# Altium integrated library R1-8V.IntLib: 9 symbols
Pins are listed as number, name and electrical type; pins without a type are passive.

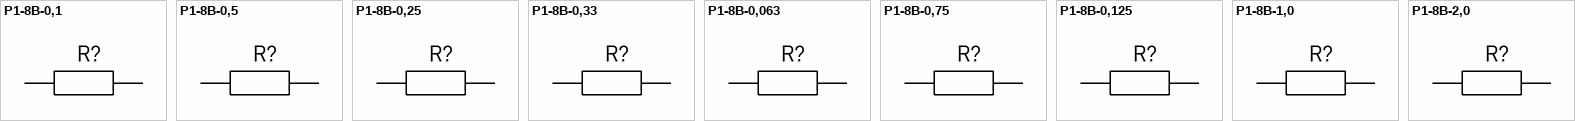
[diagram p0: symbols Р1-8В-0,1 to Р1-8В-2,0]

## Р1-8В-0,1
designator R?  (value not drawn)
Чип-резисторы постоянные непроволочные высокочастотные Р1-8В "АО"НПО"ЭРКОН"; Номинальная мощность рассеяния: 0,1 Вт; Типоразмер: 0603; Предельное рабочее напряжение: 50 В; Диапазон значений номинальных сопротивлений: от 0,15 Ом до 10 МОм; Ряд сопротивлений: Е24, Е48, Е96; КСВН: 1,2; Частота (КСВН): 2 ГГц; Категории качества: ВП; ТУ: ОЖО.467.164 ТУ
footprint Р1-8В-0603 (Chip Resistor, 2-Leads, Body 1,60x0,80mm, IPC Medium Density)
pins: 1, 2

## Р1-8В-0,5
designator R?  (value not drawn)
Чип-резисторы постоянные непроволочные высокочастотные Р1-8В "АО"НПО"ЭРКОН"; Номинальная мощность рассеяния: 0,5 Вт; Типоразмер: 2010; Предельное рабочее напряжение: 200 В; Диапазон значений номинальных сопротивлений: от 0,15 Ом до 10 МОм; Ряд сопротивлений: Е24, Е48, Е96; КСВН: 1,25; Частота (КСВН): 1,5 ГГц; Категории качества: ВП; ТУ: ОЖО.467.164 ТУ
footprint Р1-8В-2010 (Chip Resistor, 2-Leads, Body 5,00x2,50mm, IPC Medium Density)
pins: 1, 2

## Р1-8В-0,25
designator R?  (value not drawn)
Чип-резисторы постоянные непроволочные высокочастотные Р1-8В "АО"НПО"ЭРКОН"; Номинальная мощность рассеяния: 0,25 Вт; Типоразмер: 1206; Предельное рабочее напряжение: 200 В; Диапазон значений номинальных сопротивлений: от 0,15 Ом до 22 МОм; Ряд сопротивлений: Е24, Е48, Е96; КСВН: 1,25; Частота (КСВН): 1,5 ГГц; Категории качества: ВП; ТУ: ОЖО.467.164 ТУ
footprint Р1-8В-1206 (Chip Resistor, 2-Leads, Body 3,20x1,60mm, IPC Medium Density)
pins: 1, 2

## Р1-8В-0,33
designator R?  (value not drawn)
Чип-резисторы постоянные непроволочные высокочастотные Р1-8В "АО"НПО"ЭРКОН"; Номинальная мощность рассеяния: 0,33 Вт; Типоразмер: 1210; Предельное рабочее напряжение: 200 В; Диапазон значений номинальных сопротивлений: от 0,15 Ом до 10 МОм; Ряд сопротивлений: Е24, Е48, Е96; КСВН: 1,25; Частота (КСВН): 1,5 ГГц; Категории качества: ВП; ТУ: ОЖО.467.164 ТУ
footprint Р1-8В-1210 (Chip Resistor, 2-Leads, Body 3,20x2,50mm, IPC Medium Density)
pins: 1, 2

## Р1-8В-0,063
designator R?  (value not drawn)
Чип-резисторы постоянные непроволочные высокочастотные Р1-8В "АО"НПО"ЭРКОН"; Номинальная мощность рассеяния: 0,063 Вт; Типоразмер: 0402; Предельное рабочее напряжение: 50 В; Диапазон значений номинальных сопротивлений: от 0,15 Ом до 10 МОм; Ряд сопротивлений: Е24, Е48, Е96; КСВН: 1,2; Частота (КСВН): 2 ГГц; Категории качества: ВП; ТУ: ОЖО.467.164 ТУ
footprint Р1-8В-0402 (Chip Resistor, 2-Leads, Body 1,00x0,50mm, IPC Medium Density)
pins: 1, 2

## Р1-8В-0,75
designator R?  (value not drawn)
Чип-резисторы постоянные непроволочные высокочастотные Р1-8В "АО"НПО"ЭРКОН"; Номинальная мощность рассеяния: 0,75 Вт; Типоразмер: 2012; Предельное рабочее напряжение: 200 В; Диапазон значений номинальных сопротивлений: от 0,15 Ом до 22 МОм; Ряд сопротивлений: Е24, Е48, Е96; КСВН: 1,25; Частота (КСВН): 1,5 ГГц; Категории качества: ВП; ТУ: ОЖО.467.164 ТУ
footprint Р1-8В-2012 (Chip Resistor, 2-Leads, Body 5,00x3,20mm, IPC Medium Density)
pins: 1, 2

## Р1-8В-0,125
designator R?  (value not drawn)
Чип-резисторы постоянные непроволочные высокочастотные Р1-8В "АО"НПО"ЭРКОН"; Номинальная мощность рассеяния: 0,125 Вт; Типоразмер: 0805; Предельное рабочее напряжение: 150 В; Диапазон значений номинальных сопротивлений: от 0,15 Ом до 20 МОм; Ряд сопротивлений: Е24, Е48, Е96; КСВН: 1,2; Частота (КСВН): 2 ГГц; Категории качества: ВП; ТУ: ОЖО.467.164 ТУ
footprint Р1-8В-0805 (Chip Resistor, 2-Leads, Body 2,00x1,25mm, IPC Medium Density)
pins: 1, 2

## Р1-8В-1,0
designator R?  (value not drawn)
Чип-резисторы постоянные непроволочные высокочастотные Р1-8В "АО"НПО"ЭРКОН"; Номинальная мощность рассеяния: 1,0 Вт; Типоразмер: 2512; Предельное рабочее напряжение: 200 В; Диапазон значений номинальных сопротивлений: от 0,15 Ом до 10 МОм; Ряд сопротивлений: Е24, Е48, Е96; КСВН: 1,25; Частота (КСВН): 1,5 ГГц; Категории качества: ВП; ТУ: ОЖО.467.164 ТУ
footprint Р1-8В-2512 (Chip Resistor, 2-Leads, Body 6,30x3,20mm, IPC Medium Density)
pins: 1, 2

## Р1-8В-2,0
designator R?  (value not drawn)
Чип-резисторы постоянные непроволочные высокочастотные Р1-8В "АО"НПО"ЭРКОН"; Номинальная мощность рассеяния: 2,0 Вт; Типоразмер: 4020; Предельное рабочее напряжение: 250 В; Диапазон значений номинальных сопротивлений: от 0,15 Ом до 27 МОм; Ряд сопротивлений: Е24, Е48, Е96; КСВН: 1,25; Частота (КСВН): 1,5 ГГц; Категории качества: ВП; ТУ: ОЖО.467.164 ТУ
footprint Р1-8В-4020 (Chip Resistor, 2-Leads, Body 10,00x5,00mm, IPC Medium Density)
pins: 1, 2